# Altium footprint library mpu-9255.PcbLib: 1 footprints
Each footprint in its own frame and in the unit in brackets; x right, y up, seen from the top. Pads: shape width x height; smd on the part's side, far side on the other; paste and mask are expansions set on the pad; w line width, h text height; cw(c..) or ccw(c..) is an arc to the next point about the centre after c.
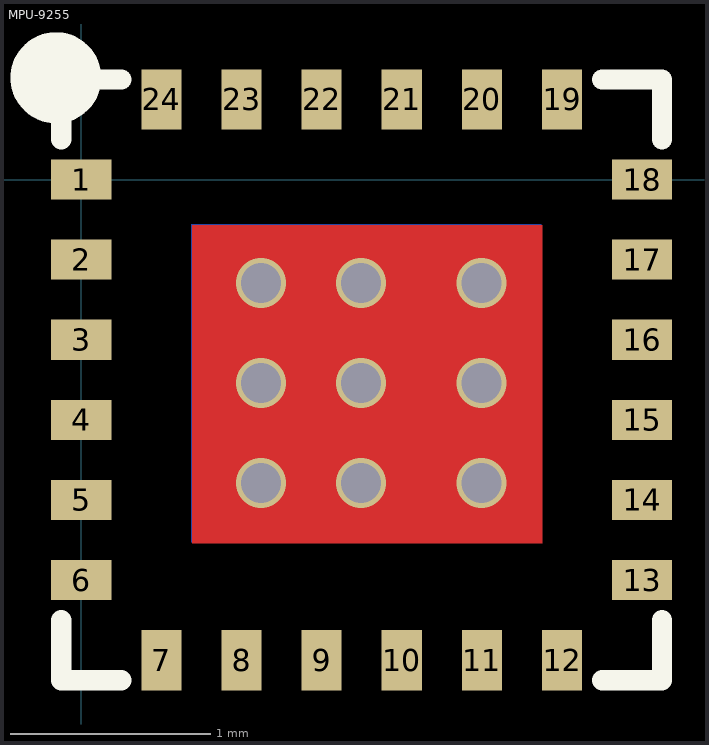
[diagram p0: the footprint, top view; thin cyan lines are the x and y axes]

## MPU-9255 [mm]
pads (24):
  rect 0.3x0.2 smd: 1(0,0) 2(0,-0.4) 3(0,-0.8) 4(0,-1.2) 5(0,-1.6) 6(0,-2) 13(2.8,-2) 14(2.8,-1.6) 15(2.8,-1.2) 16(2.8,-0.8) 17(2.8,-0.4) 18(2.8,0)
  rect 0.2x0.3 smd: 7(0.4,-2.4) 8(0.8,-2.4) 9(1.2,-2.4) 10(1.6,-2.4) 11(2,-2.4) 12(2.4,-2.4) 19(2.4,0.4) 20(2,0.4) 21(1.6,0.4) 22(1.2,0.4) 23(0.8,0.4) 24(0.4,0.4)
via 1.397,-0.516 diameter 0.25 hole 0.2
via 0.897,-0.516 diameter 0.25 hole 0.2
via 0.897,-1.016 diameter 0.25 hole 0.2
via 0.897,-1.516 diameter 0.25 hole 0.2
via 1.397,-1.516 diameter 0.25 hole 0.2
via 1.397,-1.016 diameter 0.25 hole 0.2
via 1.997,-0.516 diameter 0.25 hole 0.2
via 1.997,-1.516 diameter 0.25 hole 0.2
via 1.997,-1.016 diameter 0.25 hole 0.2
Top Layer:
  rectangle: 0.552,-1.817 2.302,-0.227
Bottom Layer:
  rectangle: 0.549,-1.812 2.299,-0.222
Top Overlay:
  circle w0.254: c-0.127,0.508 r0.1
  lines w0.1: -0.1,-2.2 -0.1,-2.5 0.2,-2.5 ; -0.1,0.2 -0.1,0.4 0,0.5 0.2,0.5 ; 2.6,-2.5 2.9,-2.5 2.9,-2.2 ; 2.6,0.5 2.9,0.5 2.9,0.2